# EAGLE library part MCP4XXX (library seniorDesign)
Microchip Technology MCP4131-103E/SN resistance from 5V to LED+, LCD screen, input card http://ww1.microchip.com/downloads/en/DeviceDoc/22060b.pdf
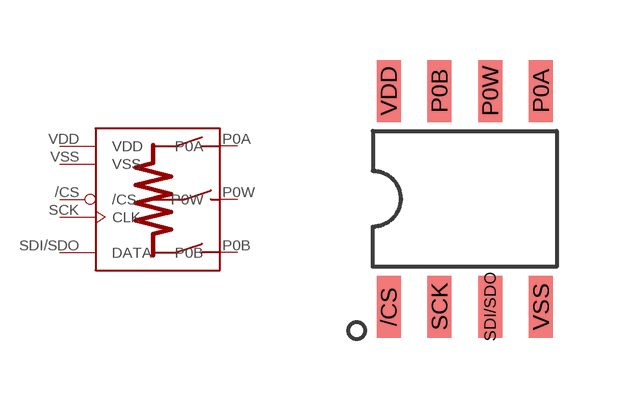
[diagram p10: symbol with the pads of MCP41X1SOIC; footprint MCP41X1SOIC]

Designator prefix -

## MCP4XXX  [MCP41X1SOIC]
/CS  /CS  in
P0A  P0A
P0B  P0B
P0W  P0W
SCK  CLK  in
SDI/SDO  DATA
VDD  VDD  sup
VSS  VSS  sup

## Footprint MCP41X1SOIC (pad centres in mm)
smd 0.6 x 1.55: /CS 0,0; P0A 3.81,5.4; P0B 1.27,5.4; P0W 2.54,5.4; SCK 1.27,0; SDI/SDO 2.54,0; VDD 0,5.4; VSS 3.81,0